# EAGLE library part HEF4027BT (library NXP_By_element14_Batch_1)
Dual JK flip-flop
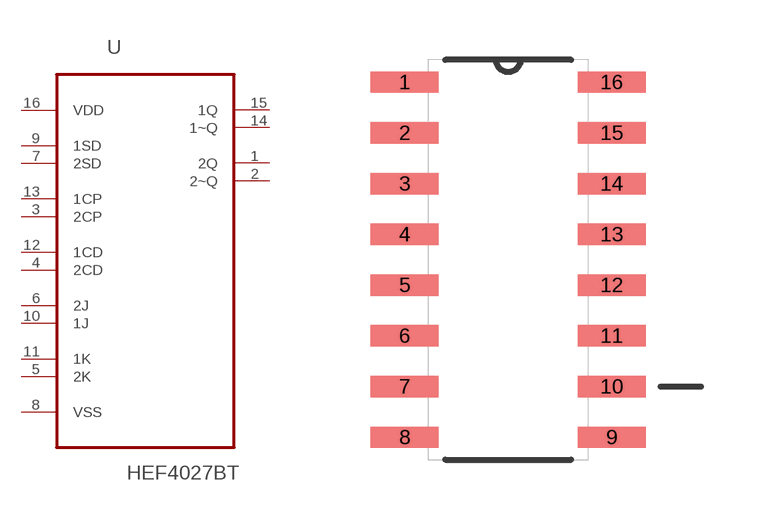
[diagram p249: symbol with the pads of SOIC127P600X175-16N; footprint SOIC127P600X175-16N]

Designator prefix U

## HEF4027BT (MPN: HEF4027BT; OC_FARNELL: 1085282; OC_NEWARK: 97K1289; P1I: o; PACKAGE: SOIC-16; SUPPLIER: NXP)  [SOIC127P600X175-16N]
1  2Q  out
2  2~Q  out
3  2CP  in
4  2CD  in
5  2K  in
6  2J  in
7  2SD  in
8  VSS  pas
9  1SD  in
10  1J  in
11  1K  in
12  1CD  in
13  1CP  in
14  1~Q  out
15  1Q  out
16  VDD  pwr

## Footprint SOIC127P600X175-16N (pad centres in mm)
smd 1.702 x 0.533: 1 -2.591,4.445; 2 -2.591,3.175; 3 -2.591,1.905; 4 -2.591,0.635; 5 -2.591,-0.635; 6 -2.591,-1.905; 7 -2.591,-3.175; 8 -2.591,-4.445; 9 2.591,-4.445; 10 2.591,-3.175; 11 2.591,-1.905; 12 2.591,-0.635; 13 2.591,0.635; 14 2.591,1.905; 15 2.591,3.175; 16 2.591,4.445